# EAGLE library part BEAGLE-TOPBOARD (library Beagle)
Beagle-Board Zusatzplatine zum Auflöten.
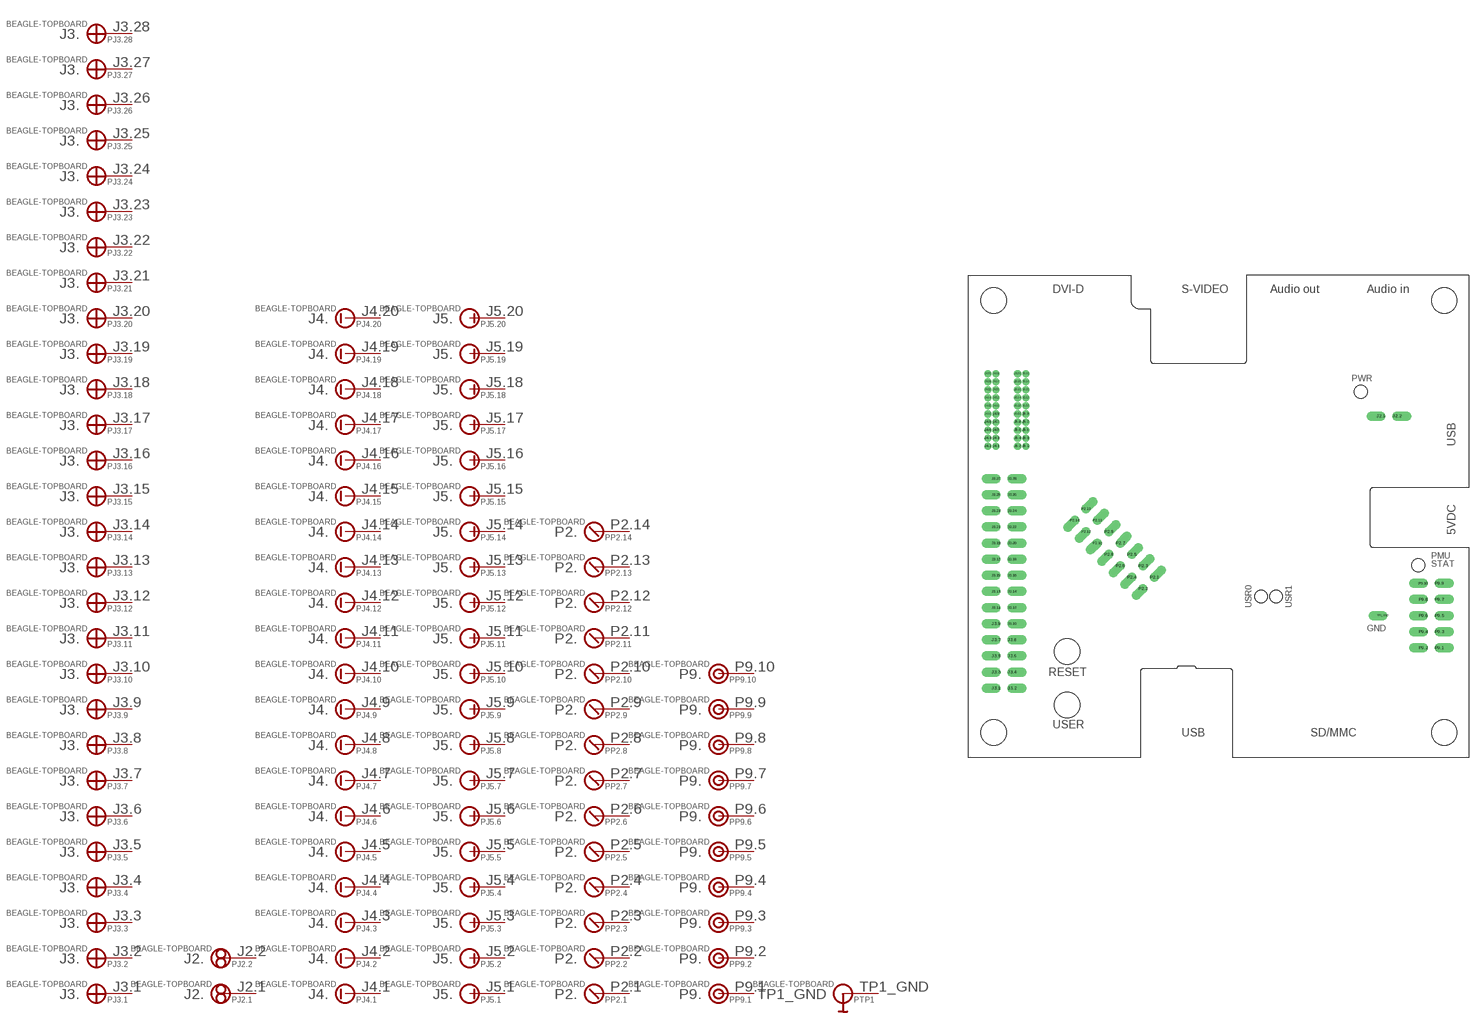
[diagram p1: symbol with the pads of BEAGLE-TOPBOARD; footprint BEAGLE-TOPBOARD]

Designator prefix P; gates J3.1=J3 J3.2=J3 J3.3=J3 J3.4=J3 J3.5=J3 J3.6=J3 J3.7=J3 J3.8=J3 J3.9=J3 J3.10=J3 J3.11=J3 J3.12=J3 J3.13=J3 J3.14=J3 J3.15=J3 J3.16=J3 J3.17=J3 J3.18=J3 J3.19=J3 J3.20=J3 J3.21=J3 J3.22=J3 J3.23=J3 J3.24=J3 J3.25=J3 J3.26=J3 J3.27=J3 J3.28=J3 J2.1=J2 J2.2=J2 J4.1=J4 J4.2=J4 J4.3=J4 J4.4=J4 J4.5=J4 J4.6=J4 J4.7=J4 J4.8=J4 J4.9=J4 J4.10=J4 J4.11=J4 J4.12=J4 J4.13=J4 J4.14=J4 J4.15=J4 J4.16=J4 J4.17=J4 J4.18=J4 J4.19=J4 J4.20=J4 J5.1=J5 J5.2=J5 J5.3=J5 J5.4=J5 J5.5=J5 J5.6=J5 J5.7=J5 J5.8=J5 J5.9=J5 J5.10=J5 J5.11=J5 J5.12=J5 J5.13=J5 J5.14=J5 J5.15=J5 J5.16=J5 J5.17=J5 J5.18=J5 J5.19=J5 J5.20=J5 P2.1=P2 P2.2=P2 P2.3=P2 P2.4=P2 P2.5=P2 P2.6=P2 P2.7=P2 P2.8=P2 P2.9=P2 P2.10=P2 P2.11=P2 P2.12=P2 P2.13=P2 P2.14=P2 P9.1=P9 P9.2=P9 P9.3=P9 P9.4=P9 P9.5=P9 P9.6=P9 P9.7=P9 P9.8=P9 P9.9=P9 P9.10=P9 TP1=TP1

## BEAGLE-TOPBOARD  [BEAGLE-TOPBOARD]
J2.1  J2.1:J2.
J2.2  J2.2:J2.
J3.1  J3.1:J3.
J3.2  J3.2:J3.
J3.3  J3.3:J3.
J3.4  J3.4:J3.
J3.5  J3.5:J3.
J3.6  J3.6:J3.
J3.7  J3.7:J3.
J3.8  J3.8:J3.
J3.9  J3.9:J3.
J3.10  J3.10:J3.
J3.11  J3.11:J3.
J3.12  J3.12:J3.
J3.13  J3.13:J3.
J3.14  J3.14:J3.
J3.15  J3.15:J3.
J3.16  J3.16:J3.
J3.17  J3.17:J3.
J3.18  J3.18:J3.
J3.19  J3.19:J3.
J3.20  J3.20:J3.
J3.21  J3.21:J3.
J3.22  J3.22:J3.
J3.23  J3.23:J3.
J3.24  J3.24:J3.
J3.25  J3.25:J3.
J3.26  J3.26:J3.
J3.27  J3.27:J3.
J3.28  J3.28:J3.
J4.1  J4.1:J4.
J4.2  J4.2:J4.
J4.3  J4.3:J4.
J4.4  J4.4:J4.
J4.5  J4.5:J4.
J4.6  J4.6:J4.
J4.7  J4.7:J4.
J4.8  J4.8:J4.
J4.9  J4.9:J4.
J4.10  J4.10:J4.
J4.11  J4.11:J4.
J4.12  J4.12:J4.
J4.13  J4.13:J4.
J4.14  J4.14:J4.
J4.15  J4.15:J4.
J4.16  J4.16:J4.
J4.17  J4.17:J4.
J4.18  J4.18:J4.
J4.19  J4.19:J4.
J4.20  J4.20:J4.
J5.1  J5.1:J5.
J5.2  J5.2:J5.
J5.3  J5.3:J5.
J5.4  J5.4:J5.
J5.5  J5.5:J5.
J5.6  J5.6:J5.
J5.7  J5.7:J5.
J5.8  J5.8:J5.
J5.9  J5.9:J5.
J5.10  J5.10:J5.
J5.11  J5.11:J5.
J5.12  J5.12:J5.
J5.13  J5.13:J5.
J5.14  J5.14:J5.
J5.15  J5.15:J5.
J5.16  J5.16:J5.
J5.17  J5.17:J5.
J5.18  J5.18:J5.
J5.19  J5.19:J5.
J5.20  J5.20:J5.
P2.1  P2.1:P2.
P2.2  P2.2:P2.
P2.3  P2.3:P2.
P2.4  P2.4:P2.
P2.5  P2.5:P2.
P2.6  P2.6:P2.
P2.7  P2.7:P2.
P2.8  P2.8:P2.
P2.9  P2.9:P2.
P2.10  P2.10:P2.
P2.11  P2.11:P2.
P2.12  P2.12:P2.
P2.13  P2.13:P2.
P2.14  P2.14:P2.
P9.1  P9.1:P9.
P9.2  P9.2:P9.
P9.3  P9.3:P9.
P9.4  P9.4:P9.
P9.5  P9.5:P9.
P9.6  P9.6:P9.
P9.7  P9.7:P9.
P9.8  P9.8:P9.
P9.9  P9.9:P9.
P9.10  P9.10:P9.
TP1_GND  TP1:TP1_GND

## Footprint BEAGLE-TOPBOARD (pad centres in mm)
drill 1 pad 1.524 offset: J2.1 65.722,54.292; J2.2 68.263,54.292; J3.13 5.08,26.67; J3.14 7.62,26.67; J3.15 5.08,29.21; J3.16 7.62,29.21; J3.17 5.08,31.75; J3.18 7.62,31.75; J3.19 5.08,34.29; J3.20 7.62,34.29; J3.21 5.08,36.83; J3.22 7.62,36.83; J3.23 5.08,39.37; J3.24 7.62,39.37; J3.25 5.08,41.91; J3.26 7.62,41.91; J3.27 5.08,44.45; J3.28 7.62,44.45; P2.1 30.044,28.902; P2.2 28.248,27.106; P2.3 28.248,30.698; P2.4 26.452,28.902; P2.5 26.452,32.494; P2.6 24.656,30.698; P2.7 24.656,34.29; P2.8 22.86,32.494; P2.9 22.86,36.086; P2.10 21.064,34.29; P2.11 21.064,37.882; P2.12 19.268,36.086; P2.13 19.268,39.678; P2.14 17.472,37.882; P9.1 74.93,17.78; P9.2 72.39,17.78; P9.3 74.93,20.32; P9.4 72.39,20.32; P9.5 74.93,22.86; P9.6 72.39,22.86; P9.7 74.93,25.4; P9.8 72.39,25.4; P9.9 74.93,27.94; P9.10 72.39,27.94; TP1_GND 66.04,22.86
drill 0.8 pad 1.524 offset: J3.1 5.08,11.43; J3.2 7.62,11.43; J3.3 5.08,13.97; J3.4 7.62,13.97; J3.5 5.08,16.51; J3.6 7.62,16.51; J3.7 5.08,19.05; J3.8 7.62,19.05; J3.9 5.08,21.59; J3.10 7.62,21.59; J3.11 5.08,24.13; J3.12 7.62,24.13
drill 0.6 pad 1.05 round: J4.1 5.08,49.53; J4.2 3.81,49.53; J4.3 5.08,50.8; J4.4 3.81,50.8; J4.5 5.08,52.07; J4.6 3.81,52.07; J4.7 5.08,53.34; J4.8 3.81,53.34; J4.9 5.08,54.61; J4.10 3.81,54.61; J4.11 5.08,55.88; J4.12 3.81,55.88; J4.13 5.08,57.15; J4.14 3.81,57.15; J4.15 5.08,58.42; J4.16 3.81,58.42; J4.17 5.08,59.69; J4.18 3.81,59.69; J4.19 5.08,60.96; J4.20 3.81,60.96; J5.1 9.76,49.53; J5.2 8.49,49.53; J5.3 9.76,50.8; J5.4 8.49,50.8; J5.5 9.76,52.07; J5.6 8.49,52.07; J5.7 9.76,53.34; J5.8 8.49,53.34; J5.9 9.76,54.61; J5.10 8.49,54.61; J5.11 9.76,55.88; J5.12 8.49,55.88; J5.13 9.76,57.15; J5.14 8.49,57.15; J5.15 9.76,58.42; J5.16 8.49,58.42; J5.17 9.76,59.69; J5.18 8.49,59.69; J5.19 9.76,60.96; J5.20 8.49,60.96
hole 4 at 4.699,4.476
hole 4 at 4.699,72.476
hole 4 at 75.698,72.476
hole 4 at 75.698,4.476
hole 4 at 16.3,8.8
hole 4 at 16.3,17.2
hole 2 at 62.547,58.102
hole 2 at 71.596,30.797
hole 2 at 46.831,25.876
hole 2 at 49.213,25.876